# Altium schematic symbol library transistor_pnp.SchLib: 5 symbols
Pins are listed as number, name and electrical type; pins without a type are passive.

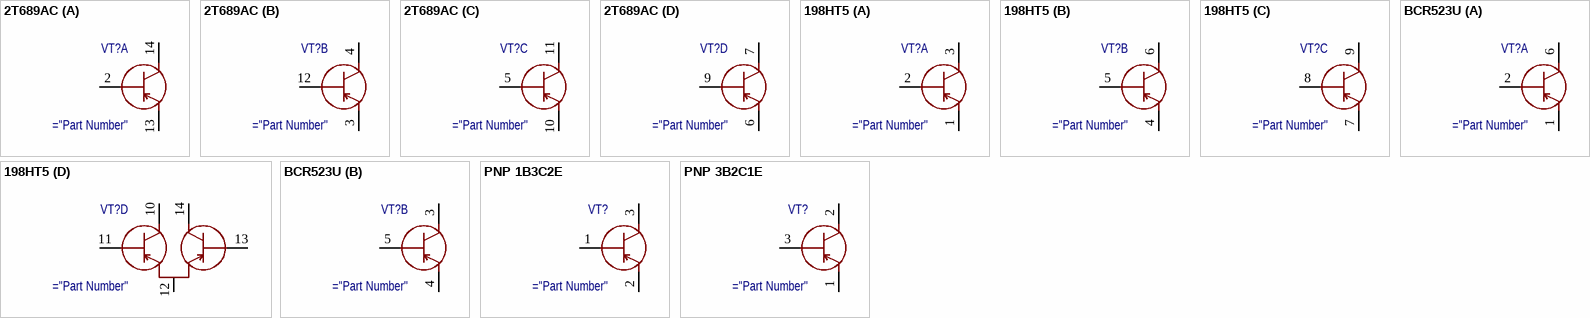
[diagram p0: symbols 2Т689АС to PNP 3B2C1E]

## 2Т689АС
designator VT?
PNP Bipolar x4
pins on every part: 1 hidden, 8 hidden
part A pins: 2 B1, 13 E1, 14 C1
part B pins: 3 E2, 4 C2, 12 B2
part C pins: 5 B3, 10 E3, 11 C3
part D pins: 6 E4, 7 C4, 9 B4

## 198НТ5
designator VT?
PNP Bipolar x4
part A pins: 1 E1, 2 B1, 3 C1
part B pins: 4 E2, 5 B2, 6 C2
part C pins: 7 E3, 8 B3, 9 C3
part D pins: 10 C4, 11 B4, 12 E4, 13 B5, 14 C5

## BCR523U
designator VT?
PNP Bipolar x2
pins on every part: 1 hidden, 8 hidden
part A pins: 1 E1, 2 B1, 6 C1
part B pins: 3 C2, 4 E2, 5 B2

## PNP 1B3C2E
designator VT?
PNP Bipolar
pins: 1 B, 2 E, 3 C

## PNP 3B2C1E
designator VT?
PNP Bipolar
pins: 1 E, 2 C, 3 B